# Altium footprint library Кнопки.PcbLib: 10 footprints
Each footprint in its own frame and in the unit in brackets; x right, y up, seen from the top. Pads: shape width x height; smd on the part's side, far side on the other; paste and mask are expansions set on the pad; w line width, h text height; cw(c..) or ccw(c..) is an arc to the next point about the centre after c.
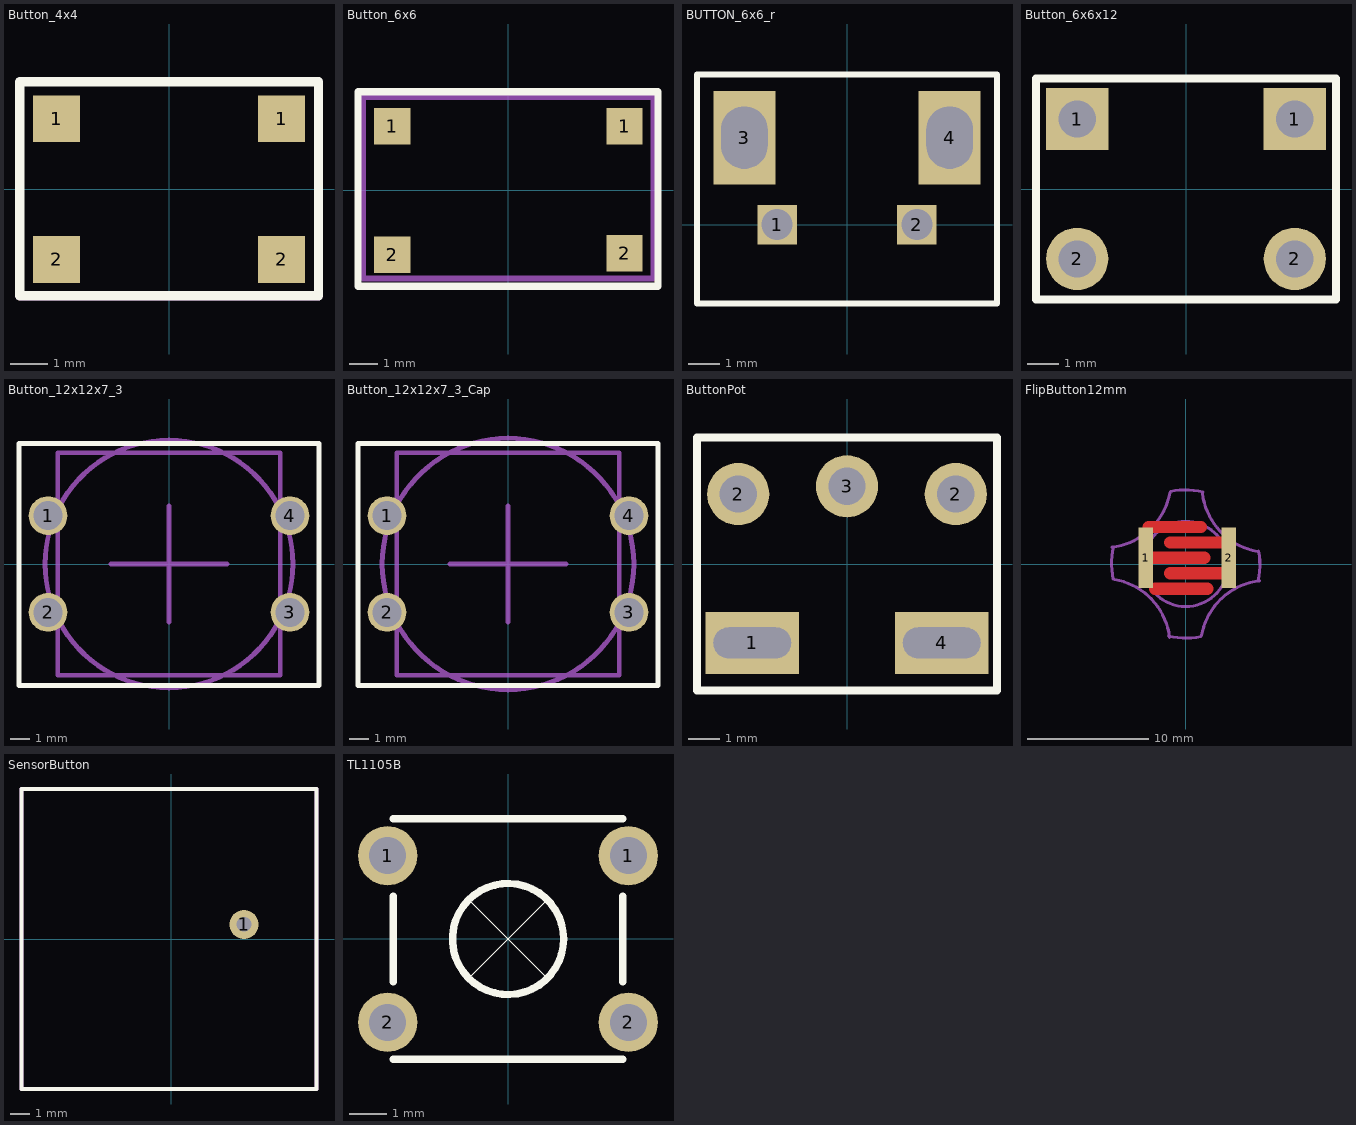
[diagram p0: the footprints below, top view; thin cyan lines are the x and y axes]

## Button_4x4 [mil]
pads (4):
  rect 50x50 smd: 1(-120,75) 1(120,75) 2(-120,-75) 2(120,-75)
Top Overlay:
  lines w10: -159.37,-113.98 -159.37,114.37 159.53,114.37 159.53,-113.98 -159.37,-113.98
Top Assy:
  lines w7.87: -160,-115 -160,115 160,115 160,-115 -160,-115
  text ".Designator" at -144.25,-63.82 h60
3D body "User Library-button11_5mm.STEP": height 59.06, standoff 0, extent -125,-104.33 127.07,104.33

## Button_6x6 [mm]
pads (4):
  rect 1.27x1.27 smd: 1(-4.064,2.25) 1(4.064,2.25) 2(-4.064,-2.25) 2(4.064,-2.195)
Top Overlay:
  lines w0.254: -5.264,-3.35 -5.264,3.45 5.236,3.45 5.236,-3.35 -5.264,-3.35
Top Assy:
  lines w0.2: -5.08,-3.084 5.08,-3.084 5.08,3.266 -5.08,3.266 -5.08,-3.084
  text ".Designator" at -4.934,-2.038 h1.52
3D body "User Library-KFC-A06-HA-4_3.STEP": height 4.3, standoff 0, extent -4.452,-2.957 4.548,3.043

## BUTTON_6x6_r [mm]
pads (4):
  rect 1.27x1.27 hole 1: 1(-2.25,0) 2(2.25,0)
  rect 2x3 hole 1.5 slot 2 at 90 deg: 3(-3.302,2.794) 4(3.302,2.794)
Top Overlay:
  lines w0.2: -4.826,-2.54 4.826,-2.54 4.826,4.826 -4.826,4.826 -4.826,-2.54
3D body "User Library-TS-A6PV-130.STEP": height 7.45, standoff -3.45, extent -3.7,-11.486 3.7,4.064

## Button_6x6x12 [mm]
pads (4):
  rect 2x2 hole 1.2: 1(-3.5,2.25) 1(3.5,2.25)
  round 2 hole 1.2: 2(-3.5,-2.25) 2(3.5,-2.25)
Top Overlay:
  lines w0.254: -4.826,-3.556 4.826,-3.556 4.826,3.556 -4.826,3.556 -4.826,-3.556
3D body "button_6x6x12_holl.STEP": height 12, standoff -3.5, extent -3.76,-2.914 3.89,3.086

## Button_12x12x7_3 [mm]
pads (4):
  round 2 hole 1.5: 1(-6.25,2.5) 2(-6.25,-2.5) 3(6.25,-2.5) 4(6.25,2.5)
Top Overlay:
  lines w0.254: -7.75,-6.275 -7.75,6.225 7.75,6.225 7.75,-6.275 -7.725,-6.275
Mechanical 13:
  circle w0.254: c0,0 r6.4
  lines w0.254: -5.75,-5.75 -5.75,5.75 5.75,5.75 5.75,-5.75 -5.75,-5.75
Mechanical 15:
  lines w0.254: -3,0 3,0 ; 0,-3 0,3
3D body "User Library-Button 12x12x7_3.STEP": height 7, standoff -2.7, extent -7.025,-5.875 6.825,6.025

## Button_12x12x7_3_Cap [mm]
pads (4):
  round 2 hole 1.5: 1(-6.25,2.5) 2(-6.25,-2.5) 3(6.25,-2.5) 4(6.25,2.5)
Top Overlay:
  lines w0.254: -7.75,-6.275 -7.75,6.225 7.75,6.225 7.75,-6.275 -7.725,-6.275
Mechanical 13:
  circle w0.254: c0,0 r6.5
  lines w0.254: -5.75,-5.75 5.75,-5.75 5.75,5.75 -5.75,5.75 -5.75,-5.75
Mechanical 15:
  lines w0.254: -3,0 3,0 ; 0,-3 0,3
3D body "Кнопка с колпачком.STEP": height 12.7, standoff -2.7, extent -6.925,-6.5 6.925,6.5

## ButtonPot [mm]
pads (5):
  rect 3x2 hole 1 slot 2.5 at 0 deg: 1(-3.048,-2.54) 4(3.048,-2.54)
  round 2 hole 1.2: 2(-3.5,2.25) 2(3.5,2.25) 3(0,2.5)
Top Overlay:
  lines w0.254: -4.826,-4.064 4.826,-4.064 4.826,4.064 -4.826,4.064 -4.826,-4.064
3D body: height 5, standoff 0, extent -3.81,-3.81 3.81,3.81
3D body "button_6x6x12_holl.STEP": height 12, standoff -3.5, extent -3.89,-3.086 3.76,2.914

## FlipButton12mm [mm]
pads (2):
  rect 1.2x5 smd: 1(-3.302,0.508) 2(3.556,0.508)
Top Layer:
  lines w1: -3.048,3.048 1.27,3.048 ; -2.794,0.508 1.524,0.508 ; -2.54,-2.032 1.778,-2.032 ; -1.27,-0.762 3.048,-0.762 ; -1.27,1.778 3.048,1.778
Bottom Solder:
  rectangle: -3.81,-3.556 4.064,3.81
Mechanical 15:
  circle w0.254: c0,0 r3.5
  lines w0.254: -6.072,1.38 ccw(c-6.715,6.842) -1.298,5.891 ; -5.972,-1.244 cw(c0,0) -5.934,1.413 ; -5.842,-1.27 cw(c-6.793,-6.687) -1.33,-6.045 ; -1.413,-5.934 ccw(c0,0) 1.244,-5.972 ; -1.244,5.972 cw(c0,0) 1.413,5.934 ; 1.298,-5.891 cw(c6.715,-6.842) 6.072,-1.38 ; 1.38,5.818 ccw(c6.842,6.461) 5.891,1.044 ; 5.934,-1.413 ccw(c0,0) 6.007,1.064

## SensorButton [mil]
pads (1):
  round 60 hole 30: 1(150,30)
Top Overlay:
  lines w7.87: -310,-310 300,-310 300,310 -310,310 -310,-310
Top Assy:
  lines w7.87: -310,-310 300,-310 300,310 -310,310 -310,-310
  text ".Designator" at -120,-20 h60
3D body "Пружина 3.stp": height 701.17, standoff -90.55, extent -303.1,-307.09 297.85,303.42

## TL1105B [mm]
height 9.5
pads (4):
  round 1.6 hole 1: 1(-3.25,2.25) 1(3.25,2.25) 2(-3.25,-2.25) 2(3.25,-2.25)
Top Overlay:
  circle w0.2: c0,0 r1.5
  lines w0.001: -1.06,-1.061 1.061,1.06 ; -1.06,1.06 1.061,-1.061
  lines w0.2: -3.1,-3.25 3.1,-3.25 ; -3.1,-1.15 -3.1,1.15 ; -3.1,3.25 3.1,3.25 ; 3.1,-1.15 3.1,1.15
3D body "tl1105bfxxxx_asm1.stp": height 9.5, standoff -3.55, extent -3.947,-3 3.947,3